# Altium footprint library TerminalBlock_RND.PcbLib: 132 footprints (part 1 of 9)
Each footprint in its own frame and in the unit in brackets; x right, y up, seen from the top. Pads: shape width x height; smd on the part's side, far side on the other; paste and mask are expansions set on the pad; w line width, h text height; cw(c..) or ccw(c..) is an arc to the next point about the centre after c.
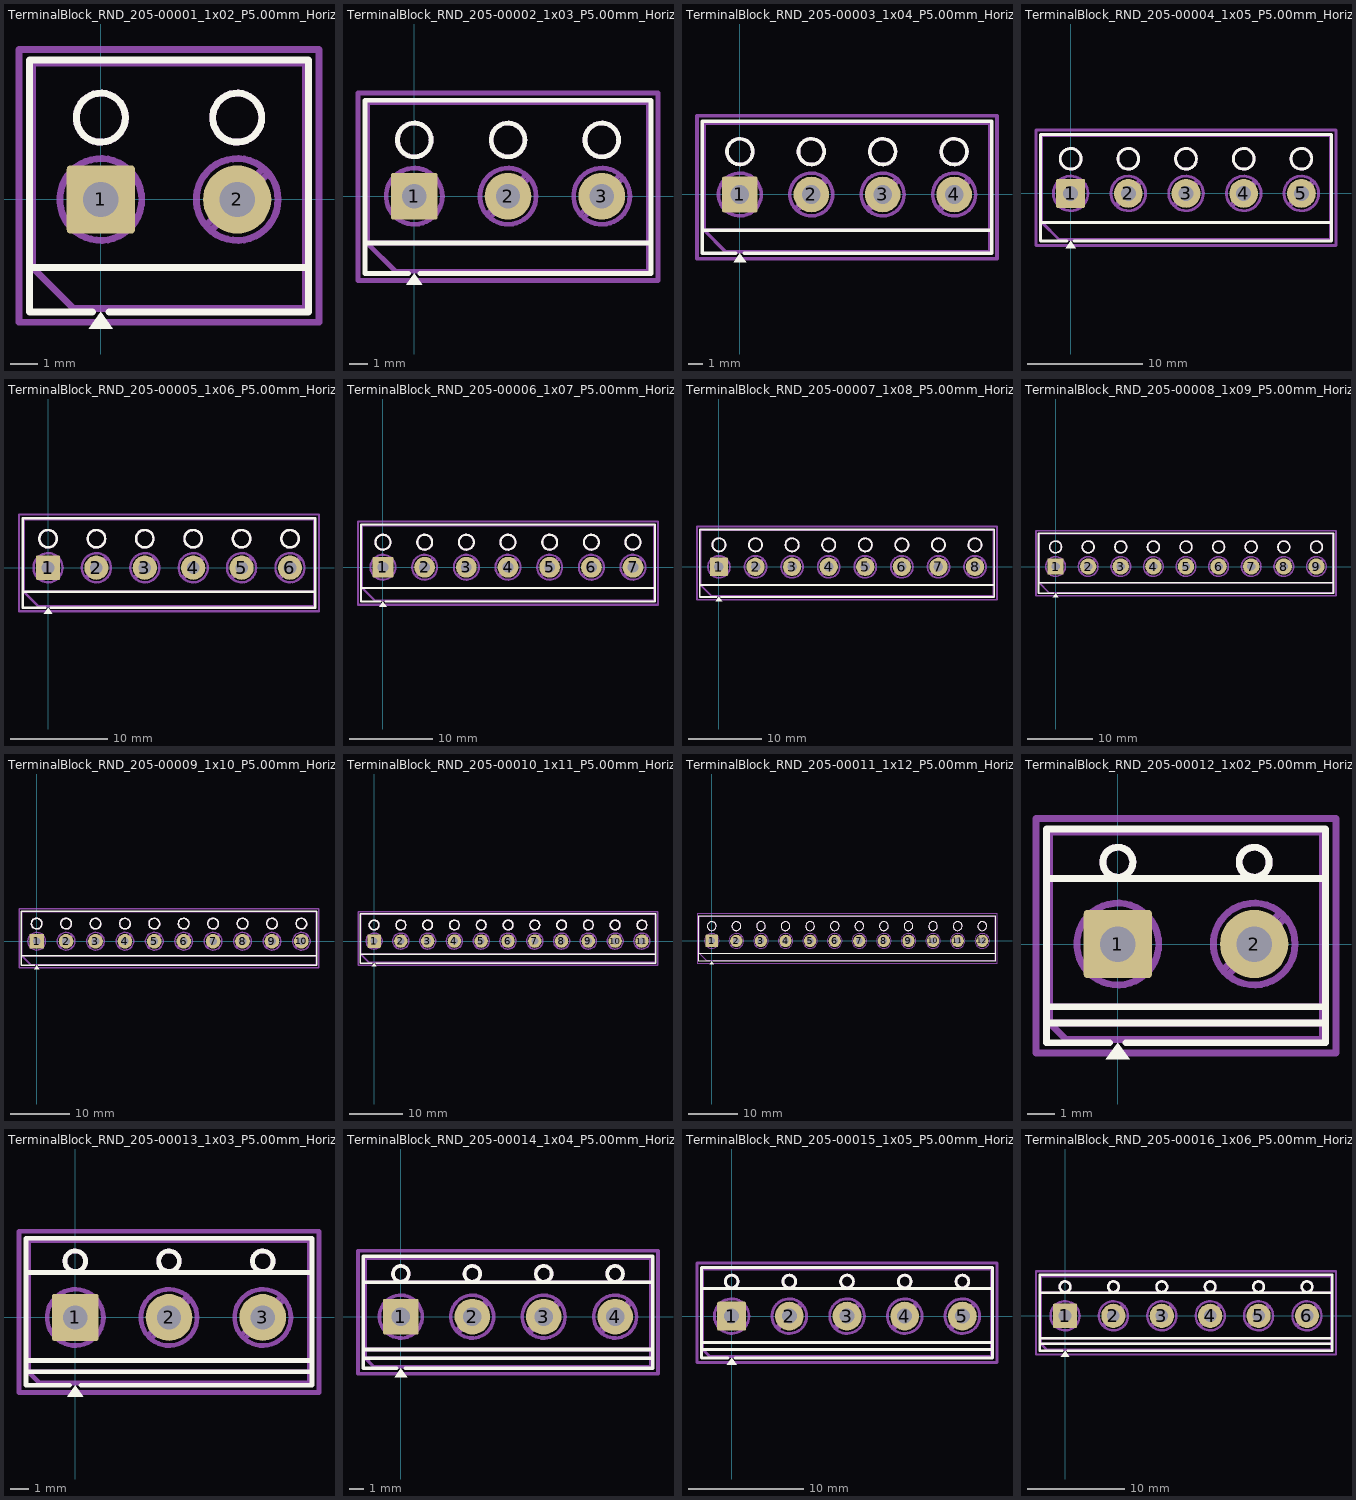
[diagram p0: the footprints below, top view; thin cyan lines are the x and y axes]

## TerminalBlock_RND_205-00001_1x02_P5.00mm_Horizontal [mm]
pads (2):
  rrect10% 2.5x2.5 hole 1.3: 1(0,0)
  round 2.5 hole 1.3: 2(5,0)
F.SilkS:
  circle w0.254: c0,3 r0.9
  circle w0.254: c5,3 r0.9
  region: 0.44,-4.73 -0.44,-4.73 0,-4.12
  lines w0.254: -2.62,-2.5 7.62,-2.5 ; -0.3,-4.12 -2.62,-4.12 -2.62,5.12 7.62,5.12 7.62,-4.12 0.3,-4.12
F.Fab:
  circle w0.254: c0,3 r0.9
  circle w0.254: c0,0 r1.5
  circle w0.254: c5,3 r0.9
  circle w0.254: c5,0 r1.5
  lines w0.254: -1.138,-0.955 0.955,1.138 ; -0.955,-1.138 1.138,0.955 ; 3.862,-0.955 5.955,1.138 ; 4.045,-1.138 6.138,0.955 ; 7.5,-2.5 -2.5,-2.5 ; -2.5,-2.5 -2.5,5 7.5,5 7.5,-4 -1,-4 -2.5,-2.5
  text "'.Designator'" at -1.547,5.28 h1
F.CrtYd:
  lines w0.254: -3,-4.5 -3,5.5 8,5.5 8,-4.5 -3,-4.5

## TerminalBlock_RND_205-00002_1x03_P5.00mm_Horizontal [mm]
pads (3):
  rrect10% 2.5x2.5 hole 1.3: 1(0,0)
  round 2.5 hole 1.3: 2(5,0) 3(10,0)
F.SilkS:
  circle w0.254: c0,3 r0.9
  circle w0.254: c5,3 r0.9
  circle w0.254: c10,3 r0.9
  region: 0.44,-4.73 -0.44,-4.73 0,-4.12
  lines w0.254: -2.62,-2.5 12.62,-2.5 ; -0.3,-4.12 -2.62,-4.12 -2.62,5.12 12.62,5.12 12.62,-4.12 0.3,-4.12
F.Fab:
  circle w0.254: c0,3 r0.9
  circle w0.254: c0,0 r1.5
  circle w0.254: c5,3 r0.9
  circle w0.254: c5,0 r1.5
  circle w0.254: c10,3 r0.9
  circle w0.254: c10,0 r1.5
  lines w0.254: -1.138,-0.955 0.955,1.138 ; -0.955,-1.138 1.138,0.955 ; 3.862,-0.955 5.955,1.138 ; 4.045,-1.138 6.138,0.955 ; 8.862,-0.955 10.955,1.138 ; 9.045,-1.138 11.138,0.955 ; 12.5,-2.5 -2.5,-2.5 ; -2.5,-2.5 -2.5,5 12.5,5 12.5,-4 -1,-4 -2.5,-2.5
  text "'.Designator'" at 0.953,5.28 h1
F.CrtYd:
  lines w0.254: -3,-4.5 -3,5.5 13,5.5 13,-4.5 -3,-4.5

## TerminalBlock_RND_205-00003_1x04_P5.00mm_Horizontal [mm]
pads (4):
  rrect10% 2.5x2.5 hole 1.3: 1(0,0)
  round 2.5 hole 1.3: 2(5,0) 3(10,0) 4(15,0)
F.SilkS:
  circle w0.254: c0,3 r0.9
  circle w0.254: c5,3 r0.9
  circle w0.254: c10,3 r0.9
  circle w0.254: c15,3 r0.9
  region: 0.44,-4.73 -0.44,-4.73 0,-4.12
  lines w0.254: -2.62,-2.5 17.62,-2.5 ; -0.3,-4.12 -2.62,-4.12 -2.62,5.12 17.62,5.12 17.62,-4.12 0.3,-4.12
F.Fab:
  circle w0.254: c0,3 r0.9
  circle w0.254: c0,0 r1.5
  circle w0.254: c5,3 r0.9
  circle w0.254: c5,0 r1.5
  circle w0.254: c10,3 r0.9
  circle w0.254: c10,0 r1.5
  circle w0.254: c15,3 r0.9
  circle w0.254: c15,0 r1.5
  lines w0.254: -1.138,-0.955 0.955,1.138 ; -0.955,-1.138 1.138,0.955 ; 3.862,-0.955 5.955,1.138 ; 4.045,-1.138 6.138,0.955 ; 8.862,-0.955 10.955,1.138 ; 9.045,-1.138 11.138,0.955 ; 13.862,-0.955 15.955,1.138 ; 14.045,-1.138 16.138,0.955 ; 17.5,-2.5 -2.5,-2.5 ; -2.5,-2.5 -2.5,5 17.5,5 17.5,-4 -1,-4 -2.5,-2.5
  text "'.Designator'" at 3.453,5.28 h1
F.CrtYd:
  lines w0.254: -3,-4.5 -3,5.5 18,5.5 18,-4.5 -3,-4.5

## TerminalBlock_RND_205-00004_1x05_P5.00mm_Horizontal [mm]
pads (5):
  rrect10% 2.5x2.5 hole 1.3: 1(0,0)
  round 2.5 hole 1.3: 2(5,0) 3(10,0) 4(15,0) 5(20,0)
F.SilkS:
  circle w0.254: c0,3 r0.9
  circle w0.254: c5,3 r0.9
  circle w0.254: c10,3 r0.9
  circle w0.254: c15,3 r0.9
  circle w0.254: c20,3 r0.9
  region: 0.44,-4.73 -0.44,-4.73 0,-4.12
  lines w0.254: -2.62,-2.5 22.62,-2.5 ; -0.3,-4.12 -2.62,-4.12 -2.62,5.12 22.62,5.12 22.62,-4.12 0.3,-4.12
F.Fab:
  circle w0.254: c0,3 r0.9
  circle w0.254: c0,0 r1.5
  circle w0.254: c5,3 r0.9
  circle w0.254: c5,0 r1.5
  circle w0.254: c10,3 r0.9
  circle w0.254: c10,0 r1.5
  circle w0.254: c15,3 r0.9
  circle w0.254: c15,0 r1.5
  circle w0.254: c20,3 r0.9
  circle w0.254: c20,0 r1.5
  lines w0.254: -1.138,-0.955 0.955,1.138 ; -0.955,-1.138 1.138,0.955 ; 3.862,-0.955 5.955,1.138 ; 4.045,-1.138 6.138,0.955 ; 8.862,-0.955 10.955,1.138 ; 9.045,-1.138 11.138,0.955 ; 13.862,-0.955 15.955,1.138 ; 14.045,-1.138 16.138,0.955 ; 18.862,-0.955 20.955,1.138 ; 19.045,-1.138 21.138,0.955 ; 22.5,-2.5 -2.5,-2.5 ; -2.5,-2.5 -2.5,5 22.5,5 22.5,-4 -1,-4 -2.5,-2.5
  text "'.Designator'" at 5.953,5.28 h1
F.CrtYd:
  lines w0.254: -3,-4.5 -3,5.5 23,5.5 23,-4.5 -3,-4.5

## TerminalBlock_RND_205-00005_1x06_P5.00mm_Horizontal [mm]
pads (6):
  rrect10% 2.5x2.5 hole 1.3: 1(0,0)
  round 2.5 hole 1.3: 2(5,0) 3(10,0) 4(15,0) 5(20,0) 6(25,0)
F.SilkS:
  circle w0.254: c0,3 r0.9
  circle w0.254: c5,3 r0.9
  circle w0.254: c10,3 r0.9
  circle w0.254: c15,3 r0.9
  circle w0.254: c20,3 r0.9
  circle w0.254: c25,3 r0.9
  region: 0.44,-4.73 -0.44,-4.73 0,-4.12
  lines w0.254: -2.62,-2.5 27.62,-2.5 ; -0.3,-4.12 -2.62,-4.12 -2.62,5.12 27.62,5.12 27.62,-4.12 0.3,-4.12
F.Fab:
  circle w0.254: c0,3 r0.9
  circle w0.254: c0,0 r1.5
  circle w0.254: c5,3 r0.9
  circle w0.254: c5,0 r1.5
  circle w0.254: c10,3 r0.9
  circle w0.254: c10,0 r1.5
  circle w0.254: c15,3 r0.9
  circle w0.254: c15,0 r1.5
  circle w0.254: c20,3 r0.9
  circle w0.254: c20,0 r1.5
  circle w0.254: c25,3 r0.9
  circle w0.254: c25,0 r1.5
  lines w0.254: -1.138,-0.955 0.955,1.138 ; -0.955,-1.138 1.138,0.955 ; 3.862,-0.955 5.955,1.138 ; 4.045,-1.138 6.138,0.955 ; 8.862,-0.955 10.955,1.138 ; 9.045,-1.138 11.138,0.955 ; 13.862,-0.955 15.955,1.138 ; 14.045,-1.138 16.138,0.955 ; 18.862,-0.955 20.955,1.138 ; 19.045,-1.138 21.138,0.955 ; 23.862,-0.955 25.955,1.138 ; 24.045,-1.138 26.138,0.955 ; 27.5,-2.5 -2.5,-2.5 ; -2.5,-2.5 -2.5,5 27.5,5 27.5,-4 -1,-4 -2.5,-2.5
  text "'.Designator'" at 8.453,5.28 h1
F.CrtYd:
  lines w0.254: -3,-4.5 -3,5.5 28,5.5 28,-4.5 -3,-4.5

## TerminalBlock_RND_205-00006_1x07_P5.00mm_Horizontal [mm]
pads (7):
  rrect10% 2.5x2.5 hole 1.3: 1(0,0)
  round 2.5 hole 1.3: 2(5,0) 3(10,0) 4(15,0) 5(20,0) 6(25,0) 7(30,0)
F.SilkS:
  circle w0.254: c0,3 r0.9
  circle w0.254: c5,3 r0.9
  circle w0.254: c10,3 r0.9
  circle w0.254: c15,3 r0.9
  circle w0.254: c20,3 r0.9
  circle w0.254: c25,3 r0.9
  circle w0.254: c30,3 r0.9
  region: 0.44,-4.73 -0.44,-4.73 0,-4.12
  lines w0.254: -2.62,-2.5 32.62,-2.5 ; -0.3,-4.12 -2.62,-4.12 -2.62,5.12 32.62,5.12 32.62,-4.12 0.3,-4.12
F.Fab:
  circle w0.254: c0,3 r0.9
  circle w0.254: c0,0 r1.5
  circle w0.254: c5,3 r0.9
  circle w0.254: c5,0 r1.5
  circle w0.254: c10,3 r0.9
  circle w0.254: c10,0 r1.5
  circle w0.254: c15,3 r0.9
  circle w0.254: c15,0 r1.5
  circle w0.254: c20,3 r0.9
  circle w0.254: c20,0 r1.5
  circle w0.254: c25,3 r0.9
  circle w0.254: c25,0 r1.5
  circle w0.254: c30,3 r0.9
  circle w0.254: c30,0 r1.5
  lines w0.254: -1.138,-0.955 0.955,1.138 ; -0.955,-1.138 1.138,0.955 ; 3.862,-0.955 5.955,1.138 ; 4.045,-1.138 6.138,0.955 ; 8.862,-0.955 10.955,1.138 ; 9.045,-1.138 11.138,0.955 ; 13.862,-0.955 15.955,1.138 ; 14.045,-1.138 16.138,0.955 ; 18.862,-0.955 20.955,1.138 ; 19.045,-1.138 21.138,0.955 ; 23.862,-0.955 25.955,1.138 ; 24.045,-1.138 26.138,0.955 ; 28.862,-0.955 30.955,1.138 ; 29.045,-1.138 31.138,0.955 ; 32.5,-2.5 -2.5,-2.5 ; -2.5,-2.5 -2.5,5 32.5,5 32.5,-4 -1,-4 -2.5,-2.5
  text "'.Designator'" at 10.953,5.28 h1
F.CrtYd:
  lines w0.254: -3,-4.5 -3,5.5 33,5.5 33,-4.5 -3,-4.5

## TerminalBlock_RND_205-00007_1x08_P5.00mm_Horizontal [mm]
pads (8):
  rrect10% 2.5x2.5 hole 1.3: 1(0,0)
  round 2.5 hole 1.3: 2(5,0) 3(10,0) 4(15,0) 5(20,0) 6(25,0) 7(30,0) 8(35,0)
F.SilkS:
  circle w0.254: c0,3 r0.9
  circle w0.254: c5,3 r0.9
  circle w0.254: c10,3 r0.9
  circle w0.254: c15,3 r0.9
  circle w0.254: c20,3 r0.9
  circle w0.254: c25,3 r0.9
  circle w0.254: c30,3 r0.9
  circle w0.254: c35,3 r0.9
  region: 0.44,-4.73 -0.44,-4.73 0,-4.12
  lines w0.254: -2.62,-2.5 37.62,-2.5 ; -0.3,-4.12 -2.62,-4.12 -2.62,5.12 37.62,5.12 37.62,-4.12 0.3,-4.12
F.Fab:
  circle w0.254: c0,3 r0.9
  circle w0.254: c0,0 r1.5
  circle w0.254: c5,3 r0.9
  circle w0.254: c5,0 r1.5
  circle w0.254: c10,3 r0.9
  circle w0.254: c10,0 r1.5
  circle w0.254: c15,3 r0.9
  circle w0.254: c15,0 r1.5
  circle w0.254: c20,3 r0.9
  circle w0.254: c20,0 r1.5
  circle w0.254: c25,3 r0.9
  circle w0.254: c25,0 r1.5
  circle w0.254: c30,3 r0.9
  circle w0.254: c30,0 r1.5
  circle w0.254: c35,3 r0.9
  circle w0.254: c35,0 r1.5
  lines w0.254: -1.138,-0.955 0.955,1.138 ; -0.955,-1.138 1.138,0.955 ; 3.862,-0.955 5.955,1.138 ; 4.045,-1.138 6.138,0.955 ; 8.862,-0.955 10.955,1.138 ; 9.045,-1.138 11.138,0.955 ; 13.862,-0.955 15.955,1.138 ; 14.045,-1.138 16.138,0.955 ; 18.862,-0.955 20.955,1.138 ; 19.045,-1.138 21.138,0.955 ; 23.862,-0.955 25.955,1.138 ; 24.045,-1.138 26.138,0.955 ; 28.862,-0.955 30.955,1.138 ; 29.045,-1.138 31.138,0.955 ; 33.862,-0.955 35.955,1.138 ; 34.045,-1.138 36.138,0.955 ; 37.5,-2.5 -2.5,-2.5 ; -2.5,-2.5 -2.5,5 37.5,5 37.5,-4 -1,-4 -2.5,-2.5
  text "'.Designator'" at 13.453,5.28 h1
F.CrtYd:
  lines w0.254: -3,-4.5 -3,5.5 38,5.5 38,-4.5 -3,-4.5

## TerminalBlock_RND_205-00008_1x09_P5.00mm_Horizontal [mm]
pads (9):
  rrect10% 2.5x2.5 hole 1.3: 1(0,0)
  round 2.5 hole 1.3: 2(5,0) 3(10,0) 4(15,0) 5(20,0) 6(25,0) 7(30,0) 8(35,0) 9(40,0)
F.SilkS:
  circle w0.254: c0,3 r0.9
  circle w0.254: c5,3 r0.9
  circle w0.254: c10,3 r0.9
  circle w0.254: c15,3 r0.9
  circle w0.254: c20,3 r0.9
  circle w0.254: c25,3 r0.9
  circle w0.254: c30,3 r0.9
  circle w0.254: c35,3 r0.9
  circle w0.254: c40,3 r0.9
  region: 0.44,-4.73 -0.44,-4.73 0,-4.12
  lines w0.254: -2.62,-2.5 42.62,-2.5 ; -0.3,-4.12 -2.62,-4.12 -2.62,5.12 42.62,5.12 42.62,-4.12 0.3,-4.12
F.Fab:
  circle w0.254: c0,3 r0.9
  circle w0.254: c0,0 r1.5
  circle w0.254: c5,3 r0.9
  circle w0.254: c5,0 r1.5
  circle w0.254: c10,3 r0.9
  circle w0.254: c10,0 r1.5
  circle w0.254: c15,3 r0.9
  circle w0.254: c15,0 r1.5
  circle w0.254: c20,3 r0.9
  circle w0.254: c20,0 r1.5
  circle w0.254: c25,3 r0.9
  circle w0.254: c25,0 r1.5
  circle w0.254: c30,3 r0.9
  circle w0.254: c30,0 r1.5
  circle w0.254: c35,3 r0.9
  circle w0.254: c35,0 r1.5
  circle w0.254: c40,3 r0.9
  circle w0.254: c40,0 r1.5
  lines w0.254: -1.138,-0.955 0.955,1.138 ; -0.955,-1.138 1.138,0.955 ; 3.862,-0.955 5.955,1.138 ; 4.045,-1.138 6.138,0.955 ; 8.862,-0.955 10.955,1.138 ; 9.045,-1.138 11.138,0.955 ; 13.862,-0.955 15.955,1.138 ; 14.045,-1.138 16.138,0.955 ; 18.862,-0.955 20.955,1.138 ; 19.045,-1.138 21.138,0.955 ; 23.862,-0.955 25.955,1.138 ; 24.045,-1.138 26.138,0.955 ; 28.862,-0.955 30.955,1.138 ; 29.045,-1.138 31.138,0.955 ; 33.862,-0.955 35.955,1.138 ; 34.045,-1.138 36.138,0.955 ; 38.862,-0.955 40.955,1.138 ; 39.045,-1.138 41.138,0.955 ; 42.5,-2.5 -2.5,-2.5 ; -2.5,-2.5 -2.5,5 42.5,5 42.5,-4 -1,-4 -2.5,-2.5
  text "'.Designator'" at 15.953,5.28 h1
F.CrtYd:
  lines w0.254: -3,-4.5 -3,5.5 43,5.5 43,-4.5 -3,-4.5

## TerminalBlock_RND_205-00009_1x10_P5.00mm_Horizontal [mm]
pads (10):
  rrect10% 2.5x2.5 hole 1.3: 1(0,0)
  round 2.5 hole 1.3: 2(5,0) 3(10,0) 4(15,0) 5(20,0) 6(25,0) 7(30,0) 8(35,0) 9(40,0) 10(45,0)
F.SilkS:
  circle w0.254: c0,3 r0.9
  circle w0.254: c5,3 r0.9
  circle w0.254: c10,3 r0.9
  circle w0.254: c15,3 r0.9
  circle w0.254: c20,3 r0.9
  circle w0.254: c25,3 r0.9
  circle w0.254: c30,3 r0.9
  circle w0.254: c35,3 r0.9
  circle w0.254: c40,3 r0.9
  circle w0.254: c45,3 r0.9
  region: 0.44,-4.73 -0.44,-4.73 0,-4.12
  lines w0.254: -2.62,-2.5 47.62,-2.5 ; -0.3,-4.12 -2.62,-4.12 -2.62,5.12 47.62,5.12 47.62,-4.12 0.3,-4.12
F.Fab:
  circle w0.254: c0,3 r0.9
  circle w0.254: c0,0 r1.5
  circle w0.254: c5,3 r0.9
  circle w0.254: c5,0 r1.5
  circle w0.254: c10,3 r0.9
  circle w0.254: c10,0 r1.5
  circle w0.254: c15,3 r0.9
  circle w0.254: c15,0 r1.5
  circle w0.254: c20,3 r0.9
  circle w0.254: c20,0 r1.5
  circle w0.254: c25,3 r0.9
  circle w0.254: c25,0 r1.5
  circle w0.254: c30,3 r0.9
  circle w0.254: c30,0 r1.5
  circle w0.254: c35,3 r0.9
  circle w0.254: c35,0 r1.5
  circle w0.254: c40,3 r0.9
  circle w0.254: c40,0 r1.5
  circle w0.254: c45,3 r0.9
  circle w0.254: c45,0 r1.5
  lines w0.254: -1.138,-0.955 0.955,1.138 ; -0.955,-1.138 1.138,0.955 ; 3.862,-0.955 5.955,1.138 ; 4.045,-1.138 6.138,0.955 ; 8.862,-0.955 10.955,1.138 ; 9.045,-1.138 11.138,0.955 ; 13.862,-0.955 15.955,1.138 ; 14.045,-1.138 16.138,0.955 ; 18.862,-0.955 20.955,1.138 ; 19.045,-1.138 21.138,0.955 ; 23.862,-0.955 25.955,1.138 ; 24.045,-1.138 26.138,0.955 ; 28.862,-0.955 30.955,1.138 ; 29.045,-1.138 31.138,0.955 ; 33.862,-0.955 35.955,1.138 ; 34.045,-1.138 36.138,0.955 ; 38.862,-0.955 40.955,1.138 ; 39.045,-1.138 41.138,0.955 ; 43.862,-0.955 45.955,1.138 ; 44.045,-1.138 46.138,0.955 ; 47.5,-2.5 -2.5,-2.5 ; -2.5,-2.5 -2.5,5 47.5,5 47.5,-4 -1,-4 -2.5,-2.5
  text "'.Designator'" at 18.453,5.28 h1
F.CrtYd:
  lines w0.254: -3,-4.5 -3,5.5 48,5.5 48,-4.5 -3,-4.5

## TerminalBlock_RND_205-00010_1x11_P5.00mm_Horizontal [mm]
pads (11):
  rrect10% 2.5x2.5 hole 1.3: 1(0,0)
  round 2.5 hole 1.3: 2(5,0) 3(10,0) 4(15,0) 5(20,0) 6(25,0) 7(30,0) 8(35,0) 9(40,0) 10(45,0) 11(50,0)
F.SilkS:
  circle w0.254: c0,3 r0.9
  circle w0.254: c5,3 r0.9
  circle w0.254: c10,3 r0.9
  circle w0.254: c15,3 r0.9
  circle w0.254: c20,3 r0.9
  circle w0.254: c25,3 r0.9
  circle w0.254: c30,3 r0.9
  circle w0.254: c35,3 r0.9
  circle w0.254: c40,3 r0.9
  circle w0.254: c45,3 r0.9
  circle w0.254: c50,3 r0.9
  region: 0.44,-4.73 -0.44,-4.73 0,-4.12
  lines w0.254: -2.62,-2.5 52.62,-2.5 ; -0.3,-4.12 -2.62,-4.12 -2.62,5.12 52.62,5.12 52.62,-4.12 0.3,-4.12
F.Fab:
  circle w0.254: c0,3 r0.9
  circle w0.254: c0,0 r1.5
  circle w0.254: c5,3 r0.9
  circle w0.254: c5,0 r1.5
  circle w0.254: c10,3 r0.9
  circle w0.254: c10,0 r1.5
  circle w0.254: c15,3 r0.9
  circle w0.254: c15,0 r1.5
  circle w0.254: c20,3 r0.9
  circle w0.254: c20,0 r1.5
  circle w0.254: c25,3 r0.9
  circle w0.254: c25,0 r1.5
  circle w0.254: c30,3 r0.9
  circle w0.254: c30,0 r1.5
  circle w0.254: c35,3 r0.9
  circle w0.254: c35,0 r1.5
  circle w0.254: c40,3 r0.9
  circle w0.254: c40,0 r1.5
  circle w0.254: c45,3 r0.9
  circle w0.254: c45,0 r1.5
  circle w0.254: c50,3 r0.9
  circle w0.254: c50,0 r1.5
  lines w0.254: -1.138,-0.955 0.955,1.138 ; -0.955,-1.138 1.138,0.955 ; 3.862,-0.955 5.955,1.138 ; 4.045,-1.138 6.138,0.955 ; 8.862,-0.955 10.955,1.138 ; 9.045,-1.138 11.138,0.955 ; 13.862,-0.955 15.955,1.138 ; 14.045,-1.138 16.138,0.955 ; 18.862,-0.955 20.955,1.138 ; 19.045,-1.138 21.138,0.955 ; 23.862,-0.955 25.955,1.138 ; 24.045,-1.138 26.138,0.955 ; 28.862,-0.955 30.955,1.138 ; 29.045,-1.138 31.138,0.955 ; 33.862,-0.955 35.955,1.138 ; 34.045,-1.138 36.138,0.955 ; 38.862,-0.955 40.955,1.138 ; 39.045,-1.138 41.138,0.955 ; 43.862,-0.955 45.955,1.138 ; 44.045,-1.138 46.138,0.955 ; 48.862,-0.955 50.955,1.138 ; 49.045,-1.138 51.138,0.955 ; 52.5,-2.5 -2.5,-2.5 ; -2.5,-2.5 -2.5,5 52.5,5 52.5,-4 -1,-4 -2.5,-2.5
  text "'.Designator'" at 20.953,5.28 h1
F.CrtYd:
  lines w0.254: -3,-4.5 -3,5.5 53,5.5 53,-4.5 -3,-4.5

## TerminalBlock_RND_205-00011_1x12_P5.00mm_Horizontal [mm]
pads (12):
  rrect10% 2.5x2.5 hole 1.3: 1(0,0)
  round 2.5 hole 1.3: 2(5,0) 3(10,0) 4(15,0) 5(20,0) 6(25,0) 7(30,0) 8(35,0) 9(40,0) 10(45,0) 11(50,0) 12(55,0)
F.SilkS:
  circle w0.254: c0,3 r0.9
  circle w0.254: c5,3 r0.9
  circle w0.254: c10,3 r0.9
  circle w0.254: c15,3 r0.9
  circle w0.254: c20,3 r0.9
  circle w0.254: c25,3 r0.9
  circle w0.254: c30,3 r0.9
  circle w0.254: c35,3 r0.9
  circle w0.254: c40,3 r0.9
  circle w0.254: c45,3 r0.9
  circle w0.254: c50,3 r0.9
  circle w0.254: c55,3 r0.9
  region: 0.44,-4.73 -0.44,-4.73 0,-4.12
  lines w0.254: -2.62,-2.5 57.62,-2.5 ; -0.3,-4.12 -2.62,-4.12 -2.62,5.12 57.62,5.12 57.62,-4.12 0.3,-4.12
F.Fab:
  circle w0.254: c0,3 r0.9
  circle w0.254: c0,0 r1.5
  circle w0.254: c5,3 r0.9
  circle w0.254: c5,0 r1.5
  circle w0.254: c10,3 r0.9
  circle w0.254: c10,0 r1.5
  circle w0.254: c15,3 r0.9
  circle w0.254: c15,0 r1.5
  circle w0.254: c20,3 r0.9
  circle w0.254: c20,0 r1.5
  circle w0.254: c25,3 r0.9
  circle w0.254: c25,0 r1.5
  circle w0.254: c30,3 r0.9
  circle w0.254: c30,0 r1.5
  circle w0.254: c35,3 r0.9
  circle w0.254: c35,0 r1.5
  circle w0.254: c40,3 r0.9
  circle w0.254: c40,0 r1.5
  circle w0.254: c45,3 r0.9
  circle w0.254: c45,0 r1.5
  circle w0.254: c50,3 r0.9
  circle w0.254: c50,0 r1.5
  circle w0.254: c55,3 r0.9
  circle w0.254: c55,0 r1.5
  lines w0.254: -1.138,-0.955 0.955,1.138 ; -0.955,-1.138 1.138,0.955 ; 3.862,-0.955 5.955,1.138 ; 4.045,-1.138 6.138,0.955 ; 8.862,-0.955 10.955,1.138 ; 9.045,-1.138 11.138,0.955 ; 13.862,-0.955 15.955,1.138 ; 14.045,-1.138 16.138,0.955 ; 18.862,-0.955 20.955,1.138 ; 19.045,-1.138 21.138,0.955 ; 23.862,-0.955 25.955,1.138 ; 24.045,-1.138 26.138,0.955 ; 28.862,-0.955 30.955,1.138 ; 29.045,-1.138 31.138,0.955 ; 33.862,-0.955 35.955,1.138 ; 34.045,-1.138 36.138,0.955 ; 38.862,-0.955 40.955,1.138 ; 39.045,-1.138 41.138,0.955 ; 43.862,-0.955 45.955,1.138 ; 44.045,-1.138 46.138,0.955 ; 48.862,-0.955 50.955,1.138 ; 49.045,-1.138 51.138,0.955 ; 53.862,-0.955 55.955,1.138 ; 54.045,-1.138 56.138,0.955 ; 57.5,-2.5 -2.5,-2.5 ; -2.5,-2.5 -2.5,5 57.5,5 57.5,-4 -1,-4 -2.5,-2.5
  text "'.Designator'" at 23.453,5.28 h1
F.CrtYd:
  lines w0.254: -3,-4.5 -3,5.5 58,5.5 58,-4.5 -3,-4.5

## TerminalBlock_RND_205-00012_1x02_P5.00mm_Horizontal [mm]
pads (2):
  rrect10% 2.5x2.5 hole 1.3: 1(0,0)
  round 2.5 hole 1.3: 2(5,0)
F.SilkS:
  circle w0.254: c0,3 r0.55
  circle w0.254: c5,3 r0.55
  region: 0.44,-4.23 -0.44,-4.23 0,-3.62
  lines w0.254: -2.62,-2.9 7.62,-2.9 ; -2.62,-2.3 7.62,-2.3 ; -2.62,2.4 7.62,2.4 ; -0.3,-3.62 -2.62,-3.62 -2.62,4.22 7.62,4.22 7.62,-3.62 0.3,-3.62
F.Fab:
  circle w0.254: c0,3 r0.55
  circle w0.254: c0,0 r1.5
  circle w0.254: c5,3 r0.55
  circle w0.254: c5,0 r1.5
  lines w0.254: -2.5,-2.3 7.5,-2.3 ; -2.5,2.4 7.5,2.4 ; -1.138,-0.955 0.955,1.138 ; -0.955,-1.138 1.138,0.955 ; 3.862,-0.955 5.955,1.138 ; 4.045,-1.138 6.138,0.955 ; 7.5,-2.9 -2.5,-2.9 ; -2.5,-2.9 -2.5,4.1 7.5,4.1 7.5,-3.5 -1.9,-3.5 -2.5,-2.9
  text "'.Designator'" at -1.547,4.38 h1
F.CrtYd:
  lines w0.254: -3,-4 -3,4.6 8,4.6 8,-4 -3,-4

## TerminalBlock_RND_205-00013_1x03_P5.00mm_Horizontal [mm]
pads (3):
  rrect10% 2.5x2.5 hole 1.3: 1(0,0)
  round 2.5 hole 1.3: 2(5,0) 3(10,0)
F.SilkS:
  circle w0.254: c0,3 r0.55
  circle w0.254: c5,3 r0.55
  circle w0.254: c10,3 r0.55
  region: 0.44,-4.23 -0.44,-4.23 0,-3.62
  lines w0.254: -2.62,-2.9 12.62,-2.9 ; -2.62,-2.3 12.62,-2.3 ; -2.62,2.4 12.62,2.4 ; -0.3,-3.62 -2.62,-3.62 -2.62,4.22 12.62,4.22 12.62,-3.62 0.3,-3.62
F.Fab:
  circle w0.254: c0,3 r0.55
  circle w0.254: c0,0 r1.5
  circle w0.254: c5,3 r0.55
  circle w0.254: c5,0 r1.5
  circle w0.254: c10,3 r0.55
  circle w0.254: c10,0 r1.5
  lines w0.254: -2.5,-2.3 12.5,-2.3 ; -2.5,2.4 12.5,2.4 ; -1.138,-0.955 0.955,1.138 ; -0.955,-1.138 1.138,0.955 ; 3.862,-0.955 5.955,1.138 ; 4.045,-1.138 6.138,0.955 ; 8.862,-0.955 10.955,1.138 ; 9.045,-1.138 11.138,0.955 ; 12.5,-2.9 -2.5,-2.9 ; -2.5,-2.9 -2.5,4.1 12.5,4.1 12.5,-3.5 -1.9,-3.5 -2.5,-2.9
  text "'.Designator'" at 0.953,4.38 h1
F.CrtYd:
  lines w0.254: -3,-4 -3,4.6 13,4.6 13,-4 -3,-4

## TerminalBlock_RND_205-00014_1x04_P5.00mm_Horizontal [mm]
pads (4):
  rrect10% 2.5x2.5 hole 1.3: 1(0,0)
  round 2.5 hole 1.3: 2(5,0) 3(10,0) 4(15,0)
F.SilkS:
  circle w0.254: c0,3 r0.55
  circle w0.254: c5,3 r0.55
  circle w0.254: c10,3 r0.55
  circle w0.254: c15,3 r0.55
  region: 0.44,-4.23 -0.44,-4.23 0,-3.62
  lines w0.254: -2.62,-2.9 17.62,-2.9 ; -2.62,-2.3 17.62,-2.3 ; -2.62,2.4 17.62,2.4 ; -0.3,-3.62 -2.62,-3.62 -2.62,4.22 17.62,4.22 17.62,-3.62 0.3,-3.62
F.Fab:
  circle w0.254: c0,3 r0.55
  circle w0.254: c0,0 r1.5
  circle w0.254: c5,3 r0.55
  circle w0.254: c5,0 r1.5
  circle w0.254: c10,3 r0.55
  circle w0.254: c10,0 r1.5
  circle w0.254: c15,3 r0.55
  circle w0.254: c15,0 r1.5
  lines w0.254: -2.5,-2.3 17.5,-2.3 ; -2.5,2.4 17.5,2.4 ; -1.138,-0.955 0.955,1.138 ; -0.955,-1.138 1.138,0.955 ; 3.862,-0.955 5.955,1.138 ; 4.045,-1.138 6.138,0.955 ; 8.862,-0.955 10.955,1.138 ; 9.045,-1.138 11.138,0.955 ; 13.862,-0.955 15.955,1.138 ; 14.045,-1.138 16.138,0.955 ; 17.5,-2.9 -2.5,-2.9 ; -2.5,-2.9 -2.5,4.1 17.5,4.1 17.5,-3.5 -1.9,-3.5 -2.5,-2.9
  text "'.Designator'" at 3.453,4.38 h1
F.CrtYd:
  lines w0.254: -3,-4 -3,4.6 18,4.6 18,-4 -3,-4

## TerminalBlock_RND_205-00015_1x05_P5.00mm_Horizontal [mm]
pads (5):
  rrect10% 2.5x2.5 hole 1.3: 1(0,0)
  round 2.5 hole 1.3: 2(5,0) 3(10,0) 4(15,0) 5(20,0)
F.SilkS:
  circle w0.254: c0,3 r0.55
  circle w0.254: c5,3 r0.55
  circle w0.254: c10,3 r0.55
  circle w0.254: c15,3 r0.55
  circle w0.254: c20,3 r0.55
  region: 0.44,-4.23 -0.44,-4.23 0,-3.62
  lines w0.254: -2.62,-2.9 22.62,-2.9 ; -2.62,-2.3 22.62,-2.3 ; -2.62,2.4 22.62,2.4 ; -0.3,-3.62 -2.62,-3.62 -2.62,4.22 22.62,4.22 22.62,-3.62 0.3,-3.62
F.Fab:
  circle w0.254: c0,3 r0.55
  circle w0.254: c0,0 r1.5
  circle w0.254: c5,3 r0.55
  circle w0.254: c5,0 r1.5
  circle w0.254: c10,3 r0.55
  circle w0.254: c10,0 r1.5
  circle w0.254: c15,3 r0.55
  circle w0.254: c15,0 r1.5
  circle w0.254: c20,3 r0.55
  circle w0.254: c20,0 r1.5
  lines w0.254: -2.5,-2.3 22.5,-2.3 ; -2.5,2.4 22.5,2.4 ; -1.138,-0.955 0.955,1.138 ; -0.955,-1.138 1.138,0.955 ; 3.862,-0.955 5.955,1.138 ; 4.045,-1.138 6.138,0.955 ; 8.862,-0.955 10.955,1.138 ; 9.045,-1.138 11.138,0.955 ; 13.862,-0.955 15.955,1.138 ; 14.045,-1.138 16.138,0.955 ; 18.862,-0.955 20.955,1.138 ; 19.045,-1.138 21.138,0.955 ; 22.5,-2.9 -2.5,-2.9 ; -2.5,-2.9 -2.5,4.1 22.5,4.1 22.5,-3.5 -1.9,-3.5 -2.5,-2.9
  text "'.Designator'" at 5.953,4.38 h1
F.CrtYd:
  lines w0.254: -3,-4 -3,4.6 23,4.6 23,-4 -3,-4

## TerminalBlock_RND_205-00016_1x06_P5.00mm_Horizontal [mm]
pads (6):
  rrect10% 2.5x2.5 hole 1.3: 1(0,0)
  round 2.5 hole 1.3: 2(5,0) 3(10,0) 4(15,0) 5(20,0) 6(25,0)
F.SilkS:
  circle w0.254: c0,3 r0.55
  circle w0.254: c5,3 r0.55
  circle w0.254: c10,3 r0.55
  circle w0.254: c15,3 r0.55
  circle w0.254: c20,3 r0.55
  circle w0.254: c25,3 r0.55
  region: 0.44,-4.23 -0.44,-4.23 0,-3.62
  lines w0.254: -2.62,-2.9 27.62,-2.9 ; -2.62,-2.3 27.62,-2.3 ; -2.62,2.4 27.62,2.4 ; -0.3,-3.62 -2.62,-3.62 -2.62,4.22 27.62,4.22 27.62,-3.62 0.3,-3.62
F.Fab:
  circle w0.254: c0,3 r0.55
  circle w0.254: c0,0 r1.5
  circle w0.254: c5,3 r0.55
  circle w0.254: c5,0 r1.5
  circle w0.254: c10,3 r0.55
  circle w0.254: c10,0 r1.5
  circle w0.254: c15,3 r0.55
  circle w0.254: c15,0 r1.5
  circle w0.254: c20,3 r0.55
  circle w0.254: c20,0 r1.5
  circle w0.254: c25,3 r0.55
  circle w0.254: c25,0 r1.5
  lines w0.254: -2.5,-2.3 27.5,-2.3 ; -2.5,2.4 27.5,2.4 ; -1.138,-0.955 0.955,1.138 ; -0.955,-1.138 1.138,0.955 ; 3.862,-0.955 5.955,1.138 ; 4.045,-1.138 6.138,0.955 ; 8.862,-0.955 10.955,1.138 ; 9.045,-1.138 11.138,0.955 ; 13.862,-0.955 15.955,1.138 ; 14.045,-1.138 16.138,0.955 ; 18.862,-0.955 20.955,1.138 ; 19.045,-1.138 21.138,0.955 ; 23.862,-0.955 25.955,1.138 ; 24.045,-1.138 26.138,0.955 ; 27.5,-2.9 -2.5,-2.9 ; -2.5,-2.9 -2.5,4.1 27.5,4.1 27.5,-3.5 -1.9,-3.5 -2.5,-2.9
  text "'.Designator'" at 8.453,4.38 h1
F.CrtYd:
  lines w0.254: -3,-4 -3,4.6 28,4.6 28,-4 -3,-4